# Altium schematic symbol library test_point.Schlib: 1 symbol
Pins are listed as number, name and electrical type; pins without a type are passive.

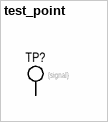
[diagram p0: symbol test_point]

## test_point
designator TP?  TP_Function: {signal}  (no BOM)
pins: 1